# EAGLE library part 74AUP2G07GM,115 (library SamacSys_Parts)
74AUP2G07 - Low-power dual buffer with open-drain output@en-us Source: Datasheet <https://componentsearchengine.com/Datasheets/1/74AUP2G07GM,115.pdf>
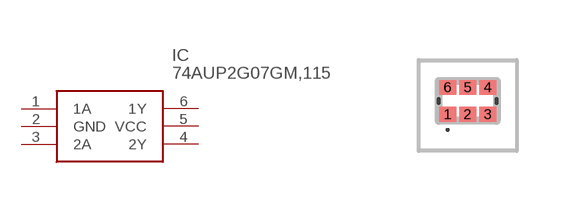
[diagram p6: symbol with the pads of PESD3V3L5UF115; footprint PESD3V3L5UF115]

Designator prefix IC

## 74AUP2G07GM,115 (DESCRIPTION: 74AUP2G07 - Low-power dual buffer with open-drain output@en-us; HEIGHT: 0.5mm; MANUFACTURER_NAME: Nexperia; MANUFACTURER_PART_NUMBER: 74AUP2G07GM,115; MOUSER_PART_NUMBER: 771-AUP2G07GM115; MOUSER_PRICE-STOCK: https://www.mouser.com/Search/Refine.aspx?Keyword=771-AUP2G07GM115)  [PESD3V3L5UF115]
1  1A
2  GND
3  2A
4  2Y
5  VCC
6  1Y

## Footprint PESD3V3L5UF115 (pad centres in mm)
SOT886
smd 0.425 x 0.37: 1 -0.5,-0.337; 2 0,-0.337; 3 0.5,-0.337; 4 0.5,0.337; 5 0,0.337; 6 -0.5,0.337